# Altium schematic symbol library NEUTRIK_NRJ6HM-1.SchLib: 1 symbol
Pins are listed as number, name and electrical type; pins without a type are passive.

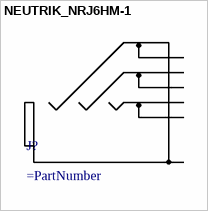
[diagram p0: symbol NEUTRIK_NRJ6HM-1]

## NEUTRIK_NRJ6HM-1
designator J?
pins: R, RN, S, SN, T, TN